# Altium footprint library AMP connector.PcbLib: 1 footprints
Each footprint in its own frame and in the unit in brackets; x right, y up, seen from the top. Pads: shape width x height; smd on the part's side, far side on the other; paste and mask are expansions set on the pad; w line width, h text height; cw(c..) or ccw(c..) is an arc to the next point about the centre after c.
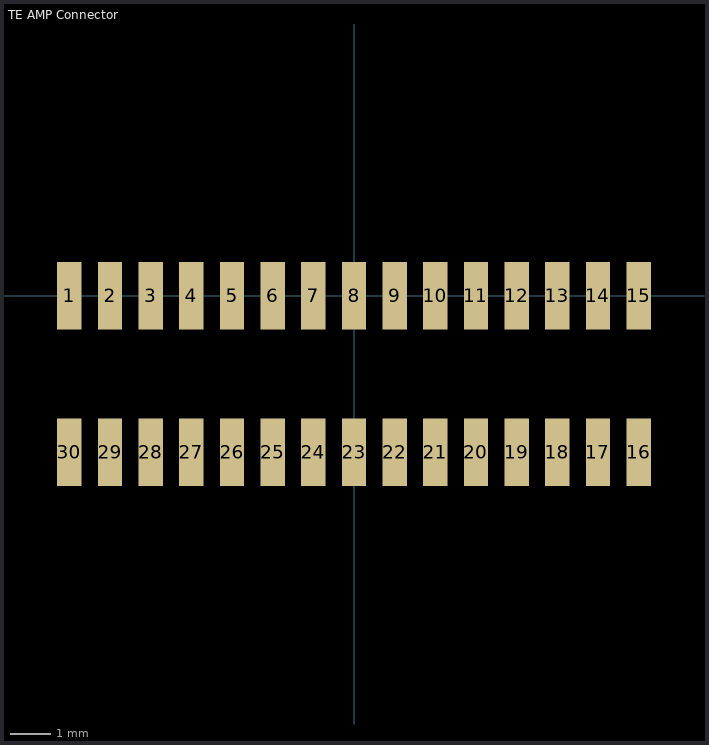
[diagram p0: the footprint, top view; thin cyan lines are the x and y axes]

## TE AMP Connector [mm] "TE AMP Connector"
height 5.5
pads (30):
  rect 0.6x1.65 smd: 1(-7,0) 2(-6,0) 3(-5,0) 4(-4,0) 5(-3,0) 6(-2,0) 7(-1,0) 8(0,0) 9(1,0) 10(2,0) 11(3,0) 12(4,0) 13(5,0) 14(6,0) 15(7,0) 16(7,-3.85) 17(6,-3.85) 18(5,-3.85) 19(4,-3.85) 20(3,-3.85) 21(2,-3.85) 22(1,-3.85) 23(0,-3.85) 24(-1,-3.85) 25(-2,-3.85) 26(-3,-3.85) 27(-4,-3.85) 28(-5,-3.85) 29(-6,-3.85) 30(-7,-3.85)
3D body: height 5.68, standoff 0, extent -11.2,-4.45 11.2,0.4